# EAGLE library part SMD-TOGGLE-SWITCH-ON-ON(3+4P-6.7X2.7MM) (library Seeed-OPL-Switch)
311030001
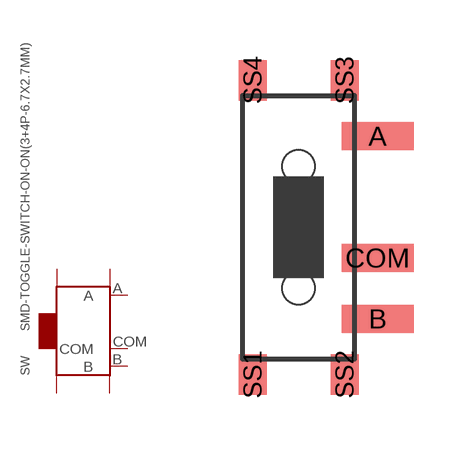
[diagram p0: symbol with the pads of SW7-SMD-L6.7X2.7X3.2MM; footprint SW7-SMD-L6.7X2.7X3.2MM]

Designator prefix SW

## SMD-TOGGLE-SWITCH-ON-ON(3+4P-6.7X2.7MM) (MPN: MK-12C02)  [SW7-SMD-L6.7X2.7X3.2MM]
A  A
B  B
COM  COM
SS1  SS1
SS2  SS2
SS3  SS3
SS4  SS4

## Footprint SW7-SMD-L6.7X2.7X3.2MM (pad centres in mm)
smd 1.8 x 0.7: A 1.978,2.286; B 1.978,-2.286; COM 1.978,-0.762
smd 0.7 x 1.016: SS1 -1.15,-3.683; SS2 1.15,-3.683; SS3 1.15,3.683; SS4 -1.15,3.683
hole 0.813 at 0,-1.524
hole 0.813 at 0,1.524